# EAGLE library part USBA (library work)
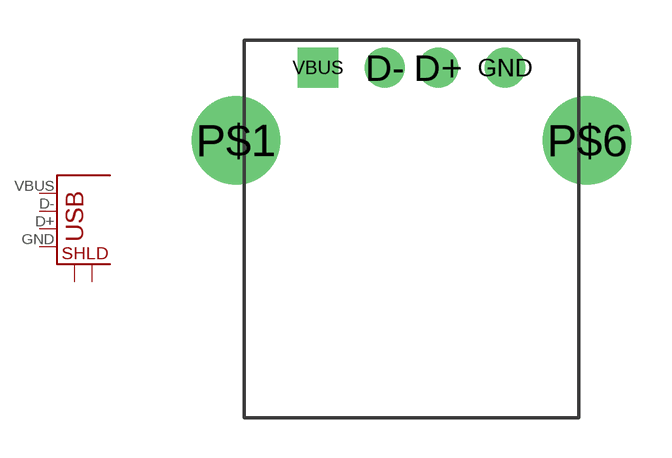
[diagram p24: symbol with the pads of USBA; footprint USBA]

Designator prefix J

## USBA  [USBA]
D+  D+
D-  D-
GND  GND
P$1  P$1
P$6  P$2
VBUS  VBUS

## Footprint USBA (pad centres in mm)
drill 0.95 pad 1.5: D+ 1,2.71; D- -1,2.71; GND 3.5,2.71
drill 2.3 pad 3.3: P$1 -6.57,0; P$6 6.57,0
drill 0.95 pad 1.5 square: VBUS -3.5,2.71